# Altium integrated library IP5-08-05.0-L-S-1-L-TR.IntLib: 1 symbol
Pins are listed as number, name and electrical type; pins without a type are passive.

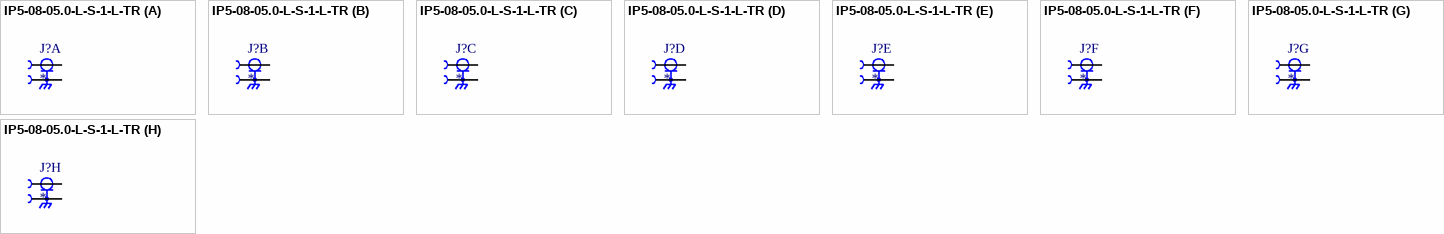
[diagram p0: symbol IP5-08-05.0-L-S-1-L-TR]

## IP5-08-05.0-L-S-1-L-TR
designator J?
MP: IP5-08-05.0-L-S-1-L-TR; Package: None; Price: None; Value: *; Availability: Unavailable
footprint SAMTEC_IP5-08-05.0-L-S-1-L-TR
part A pins: 1, S1_1 SHIELD_1, S2_1 SHIELD_1, S3_1 SHIELD_1, S4_1 SHIELD_1
part B pins: 2, S1_2 SHIELD_2, S2_2 SHIELD_2, S3_2 SHIELD_2, S4_2 SHIELD_2
part C pins: 3, S1_3 SHIELD_3, S2_3 SHIELD_3, S3_3 SHIELD_3, S4_3 SHIELD_3
part D pins: 4, S1_4 SHIELD_4, S2_4 SHIELD_4, S3_4 SHIELD_4, S4_4 SHIELD_4
part E pins: 5, S1_5 SHIELD_5, S2_5 SHIELD_5, S3_5 SHIELD_5, S4_5 SHIELD_5
part F pins: 6, S1_6 SHIELD_6, S2_6 SHIELD_6, S3_6 SHIELD_6, S4_6 SHIELD_6
part G pins: 7, S1_7 SHIELD_7, S2_7 SHIELD_7, S3_7 SHIELD_7, S4_7 SHIELD_7
part H pins: 8, S1_8 SHIELD_8, S2_8 SHIELD_8, S3_8 SHIELD_8, S4_8 SHIELD_8